# Altium integrated library ALTIUM-WE-PD-rev19a.IntLib: 320 symbols (part 3 of 5)
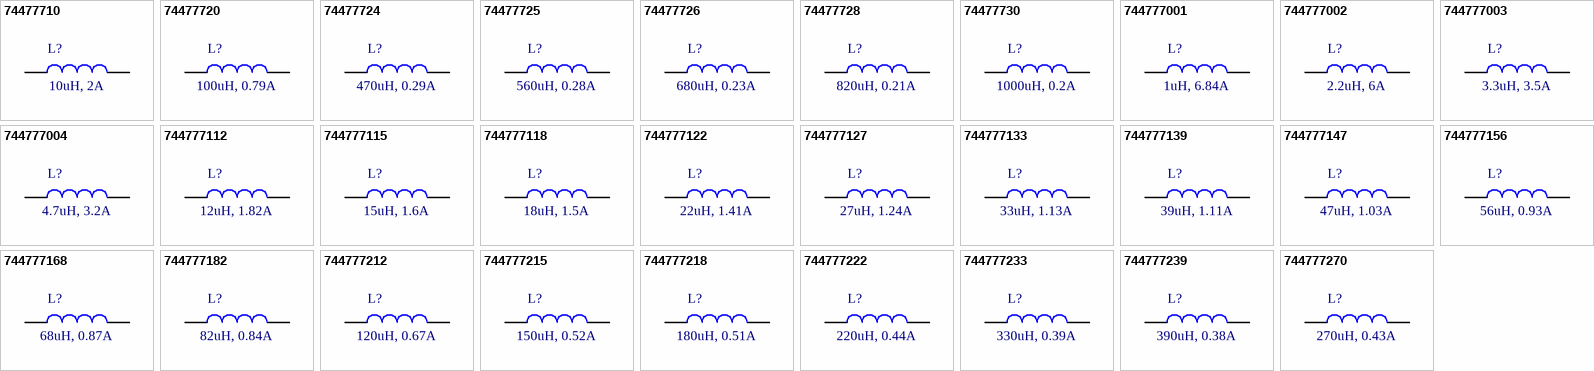
[diagram p16: symbols 74477710 to 744777270]

## 744777001
designator L?, comment 1uH, 6.84A
WE-PD SMT Power Inductor, size 7345, 1uH, 6.84A; Part Number: 744777001; DC Resistance max.: 10mOhm; Self Resonant Frequency: 100MHz; Saturation Current: 10.2A; ComponentLink1Description: Manufacturer; ComponentLink1URL: http://www.we-online.de; ComponentLink2Description: Datasheet; ComponentLink2URL: https://katalog.we-online.com/pbs/datasheet/744777001.pdf; Published Date: April 2019; Publisher: Wurth Elektronik; Rated Current: 6.84A; Size: 7345; Inductance: 1uH; Operating Temperature: -40 to +125degC; Mounting Technology: SMT; Packaging: Tape and Reel
footprint WE-PD_7345
pins: 1, 2

## 744777002
designator L?, comment 2.2uH, 6A
WE-PD SMT Power Inductor, size 7345, 2.2uH, 6A; Part Number: 744777002; DC Resistance max.: 20mOhm; Self Resonant Frequency: 60MHz; Saturation Current: 6.5A; ComponentLink1Description: Manufacturer; ComponentLink1URL: http://www.we-online.de; ComponentLink2Description: Datasheet; ComponentLink2URL: https://katalog.we-online.com/pbs/datasheet/744777002.pdf; Published Date: April 2019; Publisher: Wurth Elektronik; Rated Current: 6A; Size: 7345; Inductance: 2.2uH; Operating Temperature: -40 to +125degC; Mounting Technology: SMT; Packaging: Tape and Reel
footprint WE-PD_7345
pins: 1, 2

## 744777003
designator L?, comment 3.3uH, 3.5A
WE-PD SMT Power Inductor, size 7345, 3.3uH, 3.5A; Part Number: 744777003; DC Resistance max.: 30mOhm; Self Resonant Frequency: 55MHz; Saturation Current: 4.6A; ComponentLink1Description: Manufacturer; ComponentLink1URL: http://www.we-online.de; ComponentLink2Description: Datasheet; ComponentLink2URL: https://katalog.we-online.com/pbs/datasheet/744777003.pdf; Published Date: April 2019; Publisher: Wurth Elektronik; Rated Current: 3.5A; Size: 7345; Inductance: 3.3uH; Operating Temperature: -40 to +125degC; Mounting Technology: SMT; Packaging: Tape and Reel
footprint WE-PD_7345
pins: 1, 2

## 744777004
designator L?, comment 4.7uH, 3.2A
WE-PD SMT Power Inductor, size 7345, 4.7uH, 3.2A; Part Number: 744777004; DC Resistance max.: 40mOhm; Self Resonant Frequency: 37MHz; Saturation Current: 4A; ComponentLink1Description: Manufacturer; ComponentLink1URL: http://www.we-online.de; ComponentLink2Description: Datasheet; ComponentLink2URL: https://katalog.we-online.com/pbs/datasheet/744777004.pdf; Published Date: April 2019; Publisher: Wurth Elektronik; Rated Current: 3.2A; Size: 7345; Inductance: 4.7uH; Operating Temperature: -40 to +125degC; Mounting Technology: SMT; Packaging: Tape and Reel
footprint WE-PD_7345
pins: 1, 2

## 744777112
designator L?, comment 12uH, 1.82A
WE-PD SMT Power Inductor, size 7345, 12uH, 1.82A; Part Number: 744777112; DC Resistance max.: 58mOhm; Self Resonant Frequency: 23MHz; Saturation Current: 2.4A; ComponentLink1Description: Manufacturer; ComponentLink1URL: http://www.we-online.de; ComponentLink2Description: Datasheet; ComponentLink2URL: https://katalog.we-online.com/pbs/datasheet/744777112.pdf; Published Date: April 2019; Publisher: Wurth Elektronik; Rated Current: 1.82A; Size: 7345; Inductance: 12uH; Operating Temperature: -40 to +125degC; Mounting Technology: SMT; Packaging: Tape and Reel
footprint WE-PD_7345
pins: 1, 2

## 744777115
designator L?, comment 15uH, 1.6A
WE-PD SMT Power Inductor, size 7345, 15uH, 1.6A; Part Number: 744777115; DC Resistance max.: 81mOhm; Self Resonant Frequency: 19.5MHz; Saturation Current: 2.2A; ComponentLink1Description: Manufacturer; ComponentLink1URL: http://www.we-online.de; ComponentLink2Description: Datasheet; ComponentLink2URL: https://katalog.we-online.com/pbs/datasheet/744777115.pdf; Published Date: April 2019; Publisher: Wurth Elektronik; Rated Current: 1.6A; Size: 7345; Inductance: 15uH; Operating Temperature: -40 to +125degC; Mounting Technology: SMT; Packaging: Tape and Reel
footprint WE-PD_7345
pins: 1, 2

## 744777118
designator L?, comment 18uH, 1.5A
WE-PD SMT Power Inductor, size 7345, 18uH, 1.5A; Part Number: 744777118; DC Resistance max.: 91mOhm; Self Resonant Frequency: 19MHz; Saturation Current: 2.05A; ComponentLink1Description: Manufacturer; ComponentLink1URL: http://www.we-online.de; ComponentLink2Description: Datasheet; ComponentLink2URL: https://katalog.we-online.com/pbs/datasheet/744777118.pdf; Published Date: April 2019; Publisher: Wurth Elektronik; Rated Current: 1.5A; Size: 7345; Inductance: 18uH; Operating Temperature: -40 to +125degC; Mounting Technology: SMT; Packaging: Tape and Reel
footprint WE-PD_7345
pins: 1, 2

## 744777122
designator L?, comment 22uH, 1.41A
WE-PD SMT Power Inductor, size 7345, 22uH, 1.41A; Part Number: 744777122; DC Resistance max.: 110mOhm; Self Resonant Frequency: 17MHz; Saturation Current: 1.7A; ComponentLink1Description: Manufacturer; ComponentLink1URL: http://www.we-online.de; ComponentLink2Description: Datasheet; ComponentLink2URL: https://katalog.we-online.com/pbs/datasheet/744777122.pdf; Published Date: April 2019; Publisher: Wurth Elektronik; Rated Current: 1.41A; Size: 7345; Inductance: 22uH; Operating Temperature: -40 to +125degC; Mounting Technology: SMT; Packaging: Tape and Reel
footprint WE-PD_7345
pins: 1, 2

## 744777127
designator L?, comment 27uH, 1.24A
WE-PD SMT Power Inductor, size 7345, 27uH, 1.24A; Part Number: 744777127; DC Resistance max.: 150mOhm; Self Resonant Frequency: 15MHz; Saturation Current: 1.55A; ComponentLink1Description: Manufacturer; ComponentLink1URL: http://www.we-online.de; ComponentLink2Description: Datasheet; ComponentLink2URL: https://katalog.we-online.com/pbs/datasheet/744777127.pdf; Published Date: April 2019; Publisher: Wurth Elektronik; Rated Current: 1.24A; Size: 7345; Inductance: 27uH; Operating Temperature: -40 to +125degC; Mounting Technology: SMT; Packaging: Tape and Reel
footprint WE-PD_7345
pins: 1, 2

## 744777133
designator L?, comment 33uH, 1.13A
WE-PD SMT Power Inductor, size 7345, 33uH, 1.13A; Part Number: 744777133; DC Resistance max.: 170mOhm; Self Resonant Frequency: 13MHz; Saturation Current: 1.4A; ComponentLink1Description: Manufacturer; ComponentLink1URL: http://www.we-online.de; ComponentLink2Description: Datasheet; ComponentLink2URL: https://katalog.we-online.com/pbs/datasheet/744777133.pdf; Published Date: April 2019; Publisher: Wurth Elektronik; Rated Current: 1.13A; Size: 7345; Inductance: 33uH; Operating Temperature: -40 to +125degC; Mounting Technology: SMT; Packaging: Tape and Reel
footprint WE-PD_7345
pins: 1, 2

## 744777139
designator L?, comment 39uH, 1.11A
WE-PD SMT Power Inductor, size 7345, 39uH, 1.11A; Part Number: 744777139; DC Resistance max.: 230mOhm; Self Resonant Frequency: 12MHz; Saturation Current: 1.23A; ComponentLink1Description: Manufacturer; ComponentLink1URL: http://www.we-online.de; ComponentLink2Description: Datasheet; ComponentLink2URL: https://katalog.we-online.com/pbs/datasheet/744777139.pdf; Published Date: April 2019; Publisher: Wurth Elektronik; Rated Current: 1.11A; Size: 7345; Inductance: 39uH; Operating Temperature: -40 to +125degC; Mounting Technology: SMT; Packaging: Tape and Reel
footprint WE-PD_7345
pins: 1, 2

## 744777147
designator L?, comment 47uH, 1.03A
WE-PD SMT Power Inductor, size 7345, 47uH, 1.03A; Part Number: 744777147; DC Resistance max.: 260mOhm; Self Resonant Frequency: 10.5MHz; Saturation Current: 1.1A; ComponentLink1Description: Manufacturer; ComponentLink1URL: http://www.we-online.de; ComponentLink2Description: Datasheet; ComponentLink2URL: https://katalog.we-online.com/pbs/datasheet/744777147.pdf; Published Date: April 2019; Publisher: Wurth Elektronik; Rated Current: 1.03A; Size: 7345; Inductance: 47uH; Operating Temperature: -40 to +125degC; Mounting Technology: SMT; Packaging: Tape and Reel
footprint WE-PD_7345
pins: 1, 2

## 744777156
designator L?, comment 56uH, 0.93A
WE-PD SMT Power Inductor, size 7345, 56uH, 0.93A; Part Number: 744777156; DC Resistance max.: 350mOhm; Self Resonant Frequency: 10MHz; Saturation Current: 1.05A; ComponentLink1Description: Manufacturer; ComponentLink1URL: http://www.we-online.de; ComponentLink2Description: Datasheet; ComponentLink2URL: https://katalog.we-online.com/pbs/datasheet/744777156.pdf; Published Date: April 2019; Publisher: Wurth Elektronik; Rated Current: 0.93A; Size: 7345; Inductance: 56uH; Operating Temperature: -40 to +125degC; Mounting Technology: SMT; Packaging: Tape and Reel
footprint WE-PD_7345
pins: 1, 2

## 744777168
designator L?, comment 68uH, 0.87A
WE-PD SMT Power Inductor, size 7345, 68uH, 0.87A; Part Number: 744777168; DC Resistance max.: 380mOhm; Self Resonant Frequency: 9MHz; Saturation Current: 0.95A; ComponentLink1Description: Manufacturer; ComponentLink1URL: http://www.we-online.de; ComponentLink2Description: Datasheet; ComponentLink2URL: https://katalog.we-online.com/pbs/datasheet/744777168.pdf; Published Date: April 2019; Publisher: Wurth Elektronik; Rated Current: 0.87A; Size: 7345; Inductance: 68uH; Operating Temperature: -40 to +125degC; Mounting Technology: SMT; Packaging: Tape and Reel
footprint WE-PD_7345
pins: 1, 2

## 744777182
designator L?, comment 82uH, 0.84A
WE-PD SMT Power Inductor, size 7345, 82uH, 0.84A; Part Number: 744777182; DC Resistance max.: 430mOhm; Self Resonant Frequency: 8MHz; Saturation Current: 0.9A; ComponentLink1Description: Manufacturer; ComponentLink1URL: http://www.we-online.de; ComponentLink2Description: Datasheet; ComponentLink2URL: https://katalog.we-online.com/pbs/datasheet/744777182.pdf; Published Date: April 2019; Publisher: Wurth Elektronik; Rated Current: 0.84A; Size: 7345; Inductance: 82uH; Operating Temperature: -40 to +125degC; Mounting Technology: SMT; Packaging: Tape and Reel
footprint WE-PD_7345
pins: 1, 2

## 744777212
designator L?, comment 120uH, 0.67A
WE-PD SMT Power Inductor, size 7345, 120uH, 0.67A; Part Number: 744777212; DC Resistance max.: 660mOhm; Self Resonant Frequency: 6.7MHz; Saturation Current: 0.7A; ComponentLink1Description: Manufacturer; ComponentLink1URL: http://www.we-online.de; ComponentLink2Description: Datasheet; ComponentLink2URL: https://katalog.we-online.com/pbs/datasheet/744777212.pdf; Published Date: April 2019; Publisher: Wurth Elektronik; Rated Current: 0.67A; Size: 7345; Inductance: 120uH; Operating Temperature: -40 to +125degC; Mounting Technology: SMT; Packaging: Tape and Reel
footprint WE-PD_7345
pins: 1, 2

## 744777215
designator L?, comment 150uH, 0.52A
WE-PD SMT Power Inductor, size 7345, 150uH, 0.52A; Part Number: 744777215; DC Resistance max.: 880mOhm; Self Resonant Frequency: 6MHz; Saturation Current: 0.63A; ComponentLink1Description: Manufacturer; ComponentLink1URL: http://www.we-online.de; ComponentLink2Description: Datasheet; ComponentLink2URL: https://katalog.we-online.com/pbs/datasheet/744777215.pdf; Published Date: April 2019; Publisher: Wurth Elektronik; Rated Current: 0.52A; Size: 7345; Inductance: 150uH; Operating Temperature: -40 to +125degC; Mounting Technology: SMT; Packaging: Tape and Reel
footprint WE-PD_7345
pins: 1, 2

## 744777218
designator L?, comment 180uH, 0.51A
WE-PD SMT Power Inductor, size 7345, 180uH, 0.51A; Part Number: 744777218; DC Resistance max.: 980mOhm; Self Resonant Frequency: 5.3MHz; Saturation Current: 0.56A; ComponentLink1Description: Manufacturer; ComponentLink1URL: http://www.we-online.de; ComponentLink2Description: Datasheet; ComponentLink2URL: https://katalog.we-online.com/pbs/datasheet/744777218.pdf; Published Date: April 2019; Publisher: Wurth Elektronik; Rated Current: 0.51A; Size: 7345; Inductance: 180uH; Operating Temperature: -40 to +125degC; Mounting Technology: SMT; Packaging: Tape and Reel
footprint WE-PD_7345
pins: 1, 2

## 744777222
designator L?, comment 220uH, 0.44A
WE-PD SMT Power Inductor, size 7345, 220uH, 0.44A; Part Number: 744777222; DC Resistance max.: 1170mOhm; Self Resonant Frequency: 4.8MHz; Saturation Current: 0.54A; ComponentLink1Description: Manufacturer; ComponentLink1URL: http://www.we-online.de; ComponentLink2Description: Datasheet; ComponentLink2URL: https://katalog.we-online.com/pbs/datasheet/744777222.pdf; Published Date: April 2019; Publisher: Wurth Elektronik; Rated Current: 0.44A; Size: 7345; Inductance: 220uH; Operating Temperature: -40 to +125degC; Mounting Technology: SMT; Packaging: Tape and Reel
footprint WE-PD_7345
pins: 1, 2

## 744777233
designator L?, comment 330uH, 0.39A
WE-PD SMT Power Inductor, size 7345, 330uH, 0.39A; Part Number: 744777233; DC Resistance max.: 1860mOhm; Self Resonant Frequency: 4.2MHz; Saturation Current: 0.45A; ComponentLink1Description: Manufacturer; ComponentLink1URL: http://www.we-online.de; ComponentLink2Description: Datasheet; ComponentLink2URL: https://katalog.we-online.com/pbs/datasheet/744777233.pdf; Published Date: April 2019; Publisher: Wurth Elektronik; Rated Current: 0.39A; Size: 7345; Inductance: 330uH; Operating Temperature: -40 to +125degC; Mounting Technology: SMT; Packaging: Tape and Reel
footprint WE-PD_7345
pins: 1, 2

## 744777239
designator L?, comment 390uH, 0.38A
WE-PD SMT Power Inductor, size 7345, 390uH, 0.38A; Part Number: 744777239; DC Resistance max.: 2850mOhm; Self Resonant Frequency: 3.8MHz; Saturation Current: 0.42A; ComponentLink1Description: Manufacturer; ComponentLink1URL: http://www.we-online.de; ComponentLink2Description: Datasheet; ComponentLink2URL: https://katalog.we-online.com/pbs/datasheet/744777239.pdf; Published Date: April 2019; Publisher: Wurth Elektronik; Rated Current: 0.38A; Size: 7345; Inductance: 390uH; Operating Temperature: -40 to +125degC; Mounting Technology: SMT; Packaging: Tape and Reel
footprint WE-PD_7345
pins: 1, 2

## 744777270
designator L?, comment 270uH, 0.43A
WE-PD SMT Power Inductor, size 7345, 270uH, 0.43A; Part Number: 744777270; DC Resistance max.: 1640mOhm; Self Resonant Frequency: 4.5MHz; Saturation Current: 0.48A; ComponentLink1Description: Manufacturer; ComponentLink1URL: http://www.we-online.de; ComponentLink2Description: Datasheet; ComponentLink2URL: https://katalog.we-online.com/pbs/datasheet/744777270.pdf; Published Date: April 2019; Publisher: Wurth Elektronik; Rated Current: 0.43A; Size: 7345; Inductance: 270uH; Operating Temperature: -40 to +125degC; Mounting Technology: SMT; Packaging: Tape and Reel
footprint WE-PD_7345
pins: 1, 2


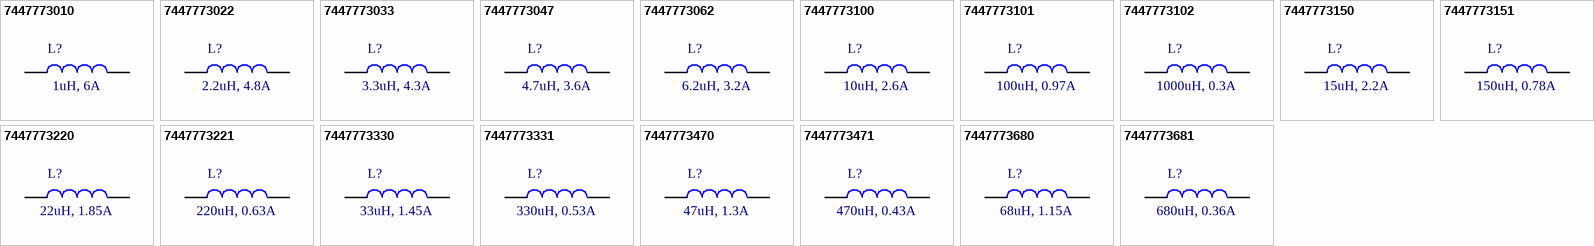
[diagram p8: symbols 7447773010 to 7447773681]

## 7447773010
designator L?, comment 1uH, 6A
WE-PD SMT Power Inductor, size 7345, 1uH, 6A; Part Number: 7447773010; DC Resistance max.: 12mOhm; Self Resonant Frequency: 98MHz; Saturation Current: 10A; ComponentLink1Description: Manufacturer; ComponentLink1URL: http://www.we-online.de; ComponentLink2Description: Datasheet; ComponentLink2URL: https://katalog.we-online.com/pbs/datasheet/7447773010.pdf; Published Date: April 2019; Publisher: Wurth Elektronik; Rated Current: 6A; Size: 7345; Inductance: 1uH; Operating Temperature: -40 to +150degC; Mounting Technology: SMT; Packaging: Tape and Reel
footprint WE-PD_7345_Performance
pins: 1, 2

## 7447773022
designator L?, comment 2.2uH, 4.8A
WE-PD SMT Power Inductor, size 7345, 2.2uH, 4.8A; Part Number: 7447773022; DC Resistance max.: 17.5mOhm; Self Resonant Frequency: 61MHz; Saturation Current: 8A; ComponentLink1Description: Manufacturer; ComponentLink1URL: http://www.we-online.de; ComponentLink2Description: Datasheet; ComponentLink2URL: https://katalog.we-online.com/pbs/datasheet/7447773022.pdf; Published Date: April 2019; Publisher: Wurth Elektronik; Rated Current: 4.8A; Size: 7345; Inductance: 2.2uH; Operating Temperature: -40 to +150degC; Mounting Technology: SMT; Packaging: Tape and Reel
footprint WE-PD_7345_Performance
pins: 1, 2

## 7447773033
designator L?, comment 3.3uH, 4.3A
WE-PD SMT Power Inductor, size 7345, 3.3uH, 4.3A; Part Number: 7447773033; DC Resistance max.: 21mOhm; Self Resonant Frequency: 51MHz; Saturation Current: 6.6A; ComponentLink1Description: Manufacturer; ComponentLink1URL: http://www.we-online.de; ComponentLink2Description: Datasheet; ComponentLink2URL: https://katalog.we-online.com/pbs/datasheet/7447773033.pdf; Published Date: April 2019; Publisher: Wurth Elektronik; Rated Current: 4.3A; Size: 7345; Inductance: 3.3uH; Operating Temperature: -40 to +150degC; Mounting Technology: SMT; Packaging: Tape and Reel
footprint WE-PD_7345_Performance
pins: 1, 2

## 7447773047
designator L?, comment 4.7uH, 3.6A
WE-PD SMT Power Inductor, size 7345, 4.7uH, 3.6A; Part Number: 7447773047; DC Resistance max.: 26mOhm; Self Resonant Frequency: 35.5MHz; Saturation Current: 5.5A; ComponentLink1Description: Manufacturer; ComponentLink1URL: http://www.we-online.de; ComponentLink2Description: Datasheet; ComponentLink2URL: https://katalog.we-online.com/pbs/datasheet/7447773047.pdf; Published Date: April 2019; Publisher: Wurth Elektronik; Rated Current: 3.6A; Size: 7345; Inductance: 4.7uH; Operating Temperature: -40 to +150degC; Mounting Technology: SMT; Packaging: Tape and Reel
footprint WE-PD_7345_Performance
pins: 1, 2

## 7447773062
designator L?, comment 6.2uH, 3.2A
WE-PD SMT Power Inductor, size 7345, 6.2uH, 3.2A; Part Number: 7447773062; DC Resistance max.: 30mOhm; Self Resonant Frequency: 31MHz; Saturation Current: 4.8A; ComponentLink1Description: Manufacturer; ComponentLink1URL: http://www.we-online.de; ComponentLink2Description: Datasheet; ComponentLink2URL: https://katalog.we-online.com/pbs/datasheet/7447773062.pdf; Published Date: April 2019; Publisher: Wurth Elektronik; Rated Current: 3.2A; Size: 7345; Inductance: 6.2uH; Operating Temperature: -40 to +150degC; Mounting Technology: SMT; Packaging: Tape and Reel
footprint WE-PD_7345_Performance
pins: 1, 2

## 7447773100
designator L?, comment 10uH, 2.6A
WE-PD SMT Power Inductor, size 7345, 10uH, 2.6A; Part Number: 7447773100; DC Resistance max.: 45mOhm; Self Resonant Frequency: 23MHz; Saturation Current: 3.8A; ComponentLink1Description: Manufacturer; ComponentLink1URL: http://www.we-online.de; ComponentLink2Description: Datasheet; ComponentLink2URL: https://katalog.we-online.com/pbs/datasheet/7447773100.pdf; Published Date: April 2019; Publisher: Wurth Elektronik; Rated Current: 2.6A; Size: 7345; Inductance: 10uH; Operating Temperature: -40 to +150degC; Mounting Technology: SMT; Packaging: Tape and Reel
footprint WE-PD_7345_Performance
pins: 1, 2

## 7447773101
designator L?, comment 100uH, 0.97A
WE-PD SMT Power Inductor, size 7345, 100uH, 0.97A; Part Number: 7447773101; DC Resistance max.: 335mOhm; Self Resonant Frequency: 6.7MHz; Saturation Current: 1.2A; ComponentLink1Description: Manufacturer; ComponentLink1URL: http://www.we-online.de; ComponentLink2Description: Datasheet; ComponentLink2URL: https://katalog.we-online.com/pbs/datasheet/7447773101.pdf; Published Date: April 2019; Publisher: Wurth Elektronik; Rated Current: 0.97A; Size: 7345; Inductance: 100uH; Operating Temperature: -40 to +150degC; Mounting Technology: SMT; Packaging: Tape and Reel
footprint WE-PD_7345_Performance
pins: 1, 2

## 7447773102
designator L?, comment 1000uH, 0.3A
WE-PD SMT Power Inductor, size 7345, 1000uH, 0.3A; Part Number: 7447773102; DC Resistance max.: 3300mOhm; Self Resonant Frequency: 1.9MHz; Saturation Current: 0.38A; ComponentLink1Description: Manufacturer; ComponentLink1URL: http://www.we-online.de; ComponentLink2Description: Datasheet; ComponentLink2URL: https://katalog.we-online.com/pbs/datasheet/7447773102.pdf; Published Date: April 2019; Publisher: Wurth Elektronik; Rated Current: 0.3A; Size: 7345; Inductance: 1000uH; Operating Temperature: -40 to +150degC; Mounting Technology: SMT; Packaging: Tape and Reel
footprint WE-PD_7345_Performance
pins: 1, 2

## 7447773150
designator L?, comment 15uH, 2.2A
WE-PD SMT Power Inductor, size 7345, 15uH, 2.2A; Part Number: 7447773150; DC Resistance max.: 69.5mOhm; Self Resonant Frequency: 20.7MHz; Saturation Current: 3.1A; ComponentLink1Description: Manufacturer; ComponentLink1URL: http://www.we-online.de; ComponentLink2Description: Datasheet; ComponentLink2URL: https://katalog.we-online.com/pbs/datasheet/7447773150.pdf; Published Date: April 2019; Publisher: Wurth Elektronik; Rated Current: 2.2A; Size: 7345; Inductance: 15uH; Operating Temperature: -40 to +150degC; Mounting Technology: SMT; Packaging: Tape and Reel
footprint WE-PD_7345_Performance
pins: 1, 2

## 7447773151
designator L?, comment 150uH, 0.78A
WE-PD SMT Power Inductor, size 7345, 150uH, 0.78A; Part Number: 7447773151; DC Resistance max.: 515mOhm; Self Resonant Frequency: 5.2MHz; Saturation Current: 0.95A; ComponentLink1Description: Manufacturer; ComponentLink1URL: http://www.we-online.de; ComponentLink2Description: Datasheet; ComponentLink2URL: https://katalog.we-online.com/pbs/datasheet/7447773151.pdf; Published Date: April 2019; Publisher: Wurth Elektronik; Rated Current: 0.78A; Size: 7345; Inductance: 150uH; Operating Temperature: -40 to +150degC; Mounting Technology: SMT; Packaging: Tape and Reel
footprint WE-PD_7345_Performance
pins: 1, 2

## 7447773220
designator L?, comment 22uH, 1.85A
WE-PD SMT Power Inductor, size 7345, 22uH, 1.85A; Part Number: 7447773220; DC Resistance max.: 87mOhm; Self Resonant Frequency: 16.1MHz; Saturation Current: 2.5A; ComponentLink1Description: Manufacturer; ComponentLink1URL: http://www.we-online.de; ComponentLink2Description: Datasheet; ComponentLink2URL: https://katalog.we-online.com/pbs/datasheet/7447773220.pdf; Published Date: April 2019; Publisher: Wurth Elektronik; Rated Current: 1.85A; Size: 7345; Inductance: 22uH; Operating Temperature: -40 to +150degC; Mounting Technology: SMT; Packaging: Tape and Reel
footprint WE-PD_7345_Performance
pins: 1, 2

## 7447773221
designator L?, comment 220uH, 0.63A
WE-PD SMT Power Inductor, size 7345, 220uH, 0.63A; Part Number: 7447773221; DC Resistance max.: 770mOhm; Self Resonant Frequency: 4.3MHz; Saturation Current: 0.81A; ComponentLink1Description: Manufacturer; ComponentLink1URL: http://www.we-online.de; ComponentLink2Description: Datasheet; ComponentLink2URL: https://katalog.we-online.com/pbs/datasheet/7447773221.pdf; Published Date: April 2019; Publisher: Wurth Elektronik; Rated Current: 0.63A; Size: 7345; Inductance: 220uH; Operating Temperature: -40 to +150degC; Mounting Technology: SMT; Packaging: Tape and Reel
footprint WE-PD_7345_Performance
pins: 1, 2

## 7447773330
designator L?, comment 33uH, 1.45A
WE-PD SMT Power Inductor, size 7345, 33uH, 1.45A; Part Number: 7447773330; DC Resistance max.: 147mOhm; Self Resonant Frequency: 13.5MHz; Saturation Current: 2.1A; ComponentLink1Description: Manufacturer; ComponentLink1URL: http://www.we-online.de; ComponentLink2Description: Datasheet; ComponentLink2URL: https://katalog.we-online.com/pbs/datasheet/7447773330.pdf; Published Date: April 2019; Publisher: Wurth Elektronik; Rated Current: 1.45A; Size: 7345; Inductance: 33uH; Operating Temperature: -40 to +150degC; Mounting Technology: SMT; Packaging: Tape and Reel
footprint WE-PD_7345_Performance
pins: 1, 2

## 7447773331
designator L?, comment 330uH, 0.53A
WE-PD SMT Power Inductor, size 7345, 330uH, 0.53A; Part Number: 7447773331; DC Resistance max.: 1085mOhm; Self Resonant Frequency: 3.6MHz; Saturation Current: 0.66A; ComponentLink1Description: Manufacturer; ComponentLink1URL: http://www.we-online.de; ComponentLink2Description: Datasheet; ComponentLink2URL: https://katalog.we-online.com/pbs/datasheet/7447773331.pdf; Published Date: April 2019; Publisher: Wurth Elektronik; Rated Current: 0.53A; Size: 7345; Inductance: 330uH; Operating Temperature: -40 to +150degC; Mounting Technology: SMT; Packaging: Tape and Reel
footprint WE-PD_7345_Performance
pins: 1, 2

## 7447773470
designator L?, comment 47uH, 1.3A
WE-PD SMT Power Inductor, size 7345, 47uH, 1.3A; Part Number: 7447773470; DC Resistance max.: 182mOhm; Self Resonant Frequency: 10.3MHz; Saturation Current: 1.7A; ComponentLink1Description: Manufacturer; ComponentLink1URL: http://www.we-online.de; ComponentLink2Description: Datasheet; ComponentLink2URL: https://katalog.we-online.com/pbs/datasheet/7447773470.pdf; Published Date: April 2019; Publisher: Wurth Elektronik; Rated Current: 1.3A; Size: 7345; Inductance: 47uH; Operating Temperature: -40 to +150degC; Mounting Technology: SMT; Packaging: Tape and Reel
footprint WE-PD_7345_Performance
pins: 1, 2

## 7447773471
designator L?, comment 470uH, 0.43A
WE-PD SMT Power Inductor, size 7345, 470uH, 0.43A; Part Number: 7447773471; DC Resistance max.: 1700mOhm; Self Resonant Frequency: 2.8MHz; Saturation Current: 0.55A; ComponentLink1Description: Manufacturer; ComponentLink1URL: http://www.we-online.de; ComponentLink2Description: Datasheet; ComponentLink2URL: https://katalog.we-online.com/pbs/datasheet/7447773471.pdf; Published Date: April 2019; Publisher: Wurth Elektronik; Rated Current: 0.43A; Size: 7345; Inductance: 470uH; Operating Temperature: -40 to +150degC; Mounting Technology: SMT; Packaging: Tape and Reel
footprint WE-PD_7345_Performance
pins: 1, 2

## 7447773680
designator L?, comment 68uH, 1.15A
WE-PD SMT Power Inductor, size 7345, 68uH, 1.15A; Part Number: 7447773680; DC Resistance max.: 230mOhm; Self Resonant Frequency: 8.4MHz; Saturation Current: 1.45A; ComponentLink1Description: Manufacturer; ComponentLink1URL: http://www.we-online.de; ComponentLink2Description: Datasheet; ComponentLink2URL: https://katalog.we-online.com/pbs/datasheet/7447773680.pdf; Published Date: April 2019; Publisher: Wurth Elektronik; Rated Current: 1.15A; Size: 7345; Inductance: 68uH; Operating Temperature: -40 to +150degC; Mounting Technology: SMT; Packaging: Tape and Reel
footprint WE-PD_7345_Performance
pins: 1, 2

## 7447773681
designator L?, comment 680uH, 0.36A
WE-PD SMT Power Inductor, size 7345, 680uH, 0.36A; Part Number: 7447773681; DC Resistance max.: 2300mOhm; Self Resonant Frequency: 2.3MHz; Saturation Current: 0.46A; ComponentLink1Description: Manufacturer; ComponentLink1URL: http://www.we-online.de; ComponentLink2Description: Datasheet; ComponentLink2URL: https://katalog.we-online.com/pbs/datasheet/7447773681.pdf; Published Date: April 2019; Publisher: Wurth Elektronik; Rated Current: 0.36A; Size: 7345; Inductance: 680uH; Operating Temperature: -40 to +150degC; Mounting Technology: SMT; Packaging: Tape and Reel
footprint WE-PD_7345_Performance
pins: 1, 2


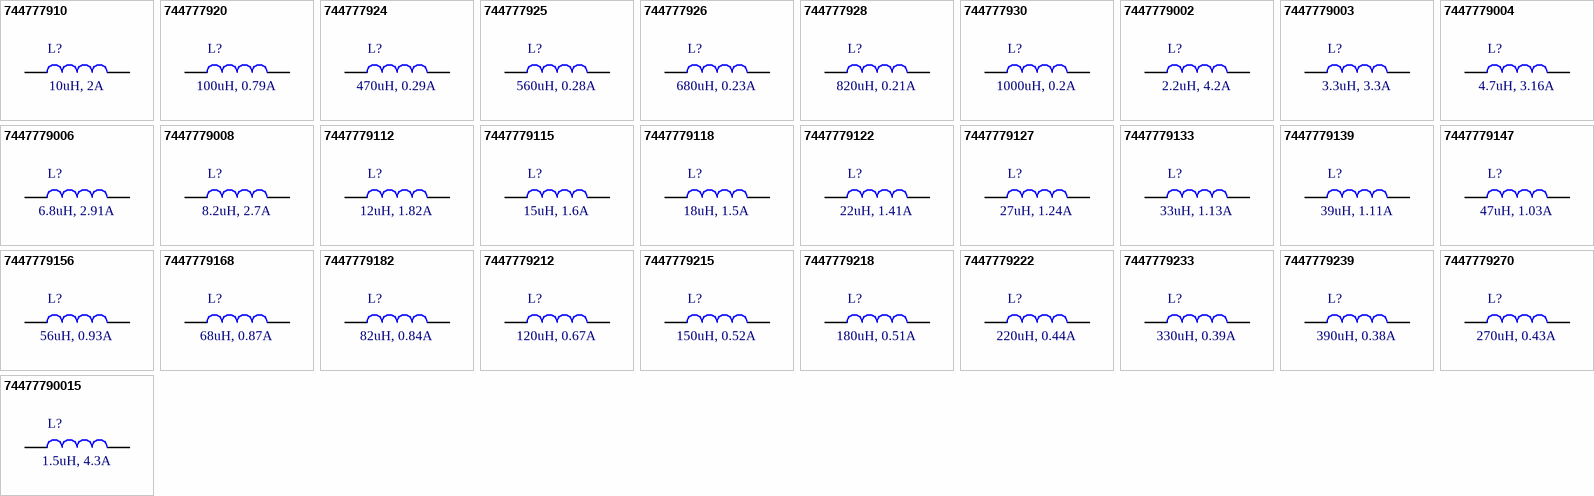
[diagram p9: symbols 744777910 to 74477790015]

## 744777910
designator L?, comment 10uH, 2A
WE-PD SMT Power Inductor, size 7345, 10uH, 2A; Part Number: 744777910; DC Resistance max.: 49mOhm; Self Resonant Frequency: 26MHz; Saturation Current: 2.6A; ComponentLink1Description: Manufacturer; ComponentLink1URL: http://www.we-online.de; ComponentLink2Description: Datasheet; ComponentLink2URL: https://katalog.we-online.com/pbs/datasheet/744777910.pdf; Published Date: April 2019; Publisher: Wurth Elektronik; Rated Current: 2A; Size: 7345; Inductance: 10uH; Operating Temperature: -40 to +125degC; Mounting Technology: SMT; Packaging: Tape and Reel
footprint WE-PD_7345_Robust
pins: 1, 2

## 744777920
designator L?, comment 100uH, 0.79A
WE-PD SMT Power Inductor, size 7345, 100uH, 0.79A; Part Number: 744777920; DC Resistance max.: 380mOhm; Self Resonant Frequency: 7.5MHz; Saturation Current: 0.75A; ComponentLink1Description: Manufacturer; ComponentLink1URL: http://www.we-online.de; ComponentLink2Description: Datasheet; ComponentLink2URL: https://katalog.we-online.com/pbs/datasheet/744777920.pdf; Published Date: April 2019; Publisher: Wurth Elektronik; Rated Current: 0.79A; Size: 7345; Inductance: 100uH; Operating Temperature: -40 to +125degC; Mounting Technology: SMT; Packaging: Tape and Reel
footprint WE-PD_7345_Robust
pins: 1, 2

## 744777924
designator L?, comment 470uH, 0.29A
WE-PD SMT Power Inductor, size 7345, 470uH, 0.29A; Part Number: 744777924; DC Resistance max.: 3010mOhm; Self Resonant Frequency: 3.2MHz; Saturation Current: 0.34A; ComponentLink1Description: Manufacturer; ComponentLink1URL: http://www.we-online.de; ComponentLink2Description: Datasheet; ComponentLink2URL: https://katalog.we-online.com/pbs/datasheet/744777924.pdf; Published Date: April 2019; Publisher: Wurth Elektronik; Rated Current: 0.29A; Size: 7345; Inductance: 470uH; Operating Temperature: -40 to +125degC; Mounting Technology: SMT; Packaging: Tape and Reel
footprint WE-PD_7345_Robust
pins: 1, 2

## 744777925
designator L?, comment 560uH, 0.28A
WE-PD SMT Power Inductor, size 7345, 560uH, 0.28A; Part Number: 744777925; DC Resistance max.: 3620mOhm; Self Resonant Frequency: 3MHz; Saturation Current: 0.31A; ComponentLink1Description: Manufacturer; ComponentLink1URL: http://www.we-online.de; ComponentLink2Description: Datasheet; ComponentLink2URL: https://katalog.we-online.com/pbs/datasheet/744777925.pdf; Published Date: April 2019; Publisher: Wurth Elektronik; Rated Current: 0.28A; Size: 7345; Inductance: 560uH; Operating Temperature: -40 to +125degC; Mounting Technology: SMT; Packaging: Tape and Reel
footprint WE-PD_7345_Robust
pins: 1, 2

## 744777926
designator L?, comment 680uH, 0.23A
WE-PD SMT Power Inductor, size 7345, 680uH, 0.23A; Part Number: 744777926; DC Resistance max.: 4630mOhm; Self Resonant Frequency: 2.7MHz; Saturation Current: 0.28A; ComponentLink1Description: Manufacturer; ComponentLink1URL: http://www.we-online.de; ComponentLink2Description: Datasheet; ComponentLink2URL: https://katalog.we-online.com/pbs/datasheet/744777926.pdf; Published Date: April 2019; Publisher: Wurth Elektronik; Rated Current: 0.23A; Size: 7345; Inductance: 680uH; Operating Temperature: -40 to +125degC; Mounting Technology: SMT; Packaging: Tape and Reel
footprint WE-PD_7345_Robust
pins: 1, 2

## 744777928
designator L?, comment 820uH, 0.21A
WE-PD SMT Power Inductor, size 7345, 820uH, 0.21A; Part Number: 744777928; DC Resistance max.: 5200mOhm; Self Resonant Frequency: 2.5MHz; Saturation Current: 0.26A; ComponentLink1Description: Manufacturer; ComponentLink1URL: http://www.we-online.de; ComponentLink2Description: Datasheet; ComponentLink2URL: https://katalog.we-online.com/pbs/datasheet/744777928.pdf; Published Date: April 2019; Publisher: Wurth Elektronik; Rated Current: 0.21A; Size: 7345; Inductance: 820uH; Operating Temperature: -40 to +125degC; Mounting Technology: SMT; Packaging: Tape and Reel
footprint WE-PD_7345_Robust
pins: 1, 2

## 744777930
designator L?, comment 1000uH, 0.2A
WE-PD SMT Power Inductor, size 7345, 1000uH, 0.2A; Part Number: 744777930; DC Resistance max.: 6000mOhm; Self Resonant Frequency: 2.2MHz; Saturation Current: 0.25A; ComponentLink1Description: Manufacturer; ComponentLink1URL: http://www.we-online.de; ComponentLink2Description: Datasheet; ComponentLink2URL: https://katalog.we-online.com/pbs/datasheet/744777930.pdf; Published Date: April 2019; Publisher: Wurth Elektronik; Rated Current: 0.2A; Size: 7345; Inductance: 1000uH; Operating Temperature: -40 to +125degC; Mounting Technology: SMT; Packaging: Tape and Reel
footprint WE-PD_7345_Robust
pins: 1, 2

## 7447779002
designator L?, comment 2.2uH, 4.2A
WE-PD SMT Power Inductor, size 7345, 2.2uH, 4.2A; Part Number: 7447779002; DC Resistance max.: 20mOhm; Self Resonant Frequency: 60MHz; Saturation Current: 6A; ComponentLink1Description: Manufacturer; ComponentLink1URL: http://www.we-online.de; ComponentLink2Description: Datasheet; ComponentLink2URL: https://katalog.we-online.com/pbs/datasheet/7447779002.pdf; Published Date: April 2019; Publisher: Wurth Elektronik; Rated Current: 4.2A; Size: 7345; Inductance: 2.2uH; Operating Temperature: -40 to +125degC; Mounting Technology: SMT; Packaging: Tape and Reel
footprint WE-PD_7345_Robust
pins: 1, 2

## 7447779003
designator L?, comment 3.3uH, 3.3A
WE-PD SMT Power Inductor, size 7345, 3.3uH, 3.3A; Part Number: 7447779003; DC Resistance max.: 30mOhm; Self Resonant Frequency: 55MHz; Saturation Current: 4.5A; ComponentLink1Description: Manufacturer; ComponentLink1URL: http://www.we-online.de; ComponentLink2Description: Datasheet; ComponentLink2URL: https://katalog.we-online.com/pbs/datasheet/7447779003.pdf; Published Date: April 2019; Publisher: Wurth Elektronik; Rated Current: 3.3A; Size: 7345; Inductance: 3.3uH; Operating Temperature: -40 to +125degC; Mounting Technology: SMT; Packaging: Tape and Reel
footprint WE-PD_7345_Robust
pins: 1, 2

## 7447779004
designator L?, comment 4.7uH, 3.16A
WE-PD SMT Power Inductor, size 7345, 4.7uH, 3.16A; Part Number: 7447779004; DC Resistance max.: 32mOhm; Self Resonant Frequency: 37MHz; Saturation Current: 4.4A; ComponentLink1Description: Manufacturer; ComponentLink1URL: http://www.we-online.de; ComponentLink2Description: Datasheet; ComponentLink2URL: https://katalog.we-online.com/pbs/datasheet/7447779004.pdf; Published Date: April 2019; Publisher: Wurth Elektronik; Rated Current: 3.16A; Size: 7345; Inductance: 4.7uH; Operating Temperature: -40 to +125degC; Mounting Technology: SMT; Packaging: Tape and Reel
footprint WE-PD_7345_Robust
pins: 1, 2

## 7447779006
designator L?, comment 6.8uH, 2.91A
WE-PD SMT Power Inductor, size 7345, 6.8uH, 2.91A; Part Number: 7447779006; DC Resistance max.: 35mOhm; Self Resonant Frequency: 32MHz; Saturation Current: 3.3A; ComponentLink1Description: Manufacturer; ComponentLink1URL: http://www.we-online.de; ComponentLink2Description: Datasheet; ComponentLink2URL: https://katalog.we-online.com/pbs/datasheet/7447779006.pdf; Published Date: April 2019; Publisher: Wurth Elektronik; Rated Current: 2.91A; Size: 7345; Inductance: 6.8uH; Operating Temperature: -40 to +125degC; Mounting Technology: SMT; Packaging: Tape and Reel
footprint WE-PD_7345_Robust
pins: 1, 2

## 7447779008
designator L?, comment 8.2uH, 2.7A
WE-PD SMT Power Inductor, size 7345, 8.2uH, 2.7A; Part Number: 7447779008; DC Resistance max.: 53mOhm; Self Resonant Frequency: 28MHz; Saturation Current: 3A; ComponentLink1Description: Manufacturer; ComponentLink1URL: http://www.we-online.de; ComponentLink2Description: Datasheet; ComponentLink2URL: https://katalog.we-online.com/pbs/datasheet/7447779008.pdf; Published Date: April 2019; Publisher: Wurth Elektronik; Rated Current: 2.7A; Size: 7345; Inductance: 8.2uH; Operating Temperature: -40 to +125degC; Mounting Technology: SMT; Packaging: Tape and Reel
footprint WE-PD_7345_Robust
pins: 1, 2

## 7447779112
designator L?, comment 12uH, 1.82A
WE-PD SMT Power Inductor, size 7345, 12uH, 1.82A; Part Number: 7447779112; DC Resistance max.: 58mOhm; Self Resonant Frequency: 23MHz; Saturation Current: 2.4A; ComponentLink1Description: Manufacturer; ComponentLink1URL: http://www.we-online.de; ComponentLink2Description: Datasheet; ComponentLink2URL: https://katalog.we-online.com/pbs/datasheet/7447779112.pdf; Published Date: April 2019; Publisher: Wurth Elektronik; Rated Current: 1.82A; Size: 7345; Inductance: 12uH; Operating Temperature: -40 to +125degC; Mounting Technology: SMT; Packaging: Tape and Reel
footprint WE-PD_7345_Robust
pins: 1, 2

## 7447779115
designator L?, comment 15uH, 1.6A
WE-PD SMT Power Inductor, size 7345, 15uH, 1.6A; Part Number: 7447779115; DC Resistance max.: 81mOhm; Self Resonant Frequency: 19.5MHz; Saturation Current: 2.2A; ComponentLink1Description: Manufacturer; ComponentLink1URL: http://www.we-online.de; ComponentLink2Description: Datasheet; ComponentLink2URL: https://katalog.we-online.com/pbs/datasheet/7447779115.pdf; Published Date: April 2019; Publisher: Wurth Elektronik; Rated Current: 1.6A; Size: 7345; Inductance: 15uH; Operating Temperature: -40 to +125degC; Mounting Technology: SMT; Packaging: Tape and Reel
footprint WE-PD_7345_Robust
pins: 1, 2

## 7447779118
designator L?, comment 18uH, 1.5A
WE-PD SMT Power Inductor, size 7345, 18uH, 1.5A; Part Number: 7447779118; DC Resistance max.: 91mOhm; Self Resonant Frequency: 19MHz; Saturation Current: 2.05A; ComponentLink1Description: Manufacturer; ComponentLink1URL: http://www.we-online.de; ComponentLink2Description: Datasheet; ComponentLink2URL: https://katalog.we-online.com/pbs/datasheet/7447779118.pdf; Published Date: April 2019; Publisher: Wurth Elektronik; Rated Current: 1.5A; Size: 7345; Inductance: 18uH; Operating Temperature: -40 to +125degC; Mounting Technology: SMT; Packaging: Tape and Reel
footprint WE-PD_7345_Robust
pins: 1, 2

## 7447779122
designator L?, comment 22uH, 1.41A
WE-PD SMT Power Inductor, size 7345, 22uH, 1.41A; Part Number: 7447779122; DC Resistance max.: 110mOhm; Self Resonant Frequency: 17MHz; Saturation Current: 1.7A; ComponentLink1Description: Manufacturer; ComponentLink1URL: http://www.we-online.de; ComponentLink2Description: Datasheet; ComponentLink2URL: https://katalog.we-online.com/pbs/datasheet/7447779122.pdf; Published Date: April 2019; Publisher: Wurth Elektronik; Rated Current: 1.41A; Size: 7345; Inductance: 22uH; Operating Temperature: -40 to +125degC; Mounting Technology: SMT; Packaging: Tape and Reel
footprint WE-PD_7345_Robust
pins: 1, 2

## 7447779127
designator L?, comment 27uH, 1.24A
WE-PD SMT Power Inductor, size 7345, 27uH, 1.24A; Part Number: 7447779127; DC Resistance max.: 150mOhm; Self Resonant Frequency: 15MHz; Saturation Current: 1.55A; ComponentLink1Description: Manufacturer; ComponentLink1URL: http://www.we-online.de; ComponentLink2Description: Datasheet; ComponentLink2URL: https://katalog.we-online.com/pbs/datasheet/7447779127.pdf; Published Date: April 2019; Publisher: Wurth Elektronik; Rated Current: 1.24A; Size: 7345; Inductance: 27uH; Operating Temperature: -40 to +125degC; Mounting Technology: SMT; Packaging: Tape and Reel
footprint WE-PD_7345_Robust
pins: 1, 2

## 7447779133
designator L?, comment 33uH, 1.13A
WE-PD SMT Power Inductor, size 7345, 33uH, 1.13A; Part Number: 7447779133; DC Resistance max.: 170mOhm; Self Resonant Frequency: 13MHz; Saturation Current: 1.4A; ComponentLink1Description: Manufacturer; ComponentLink1URL: http://www.we-online.de; ComponentLink2Description: Datasheet; ComponentLink2URL: https://katalog.we-online.com/pbs/datasheet/7447779133.pdf; Published Date: April 2019; Publisher: Wurth Elektronik; Rated Current: 1.13A; Size: 7345; Inductance: 33uH; Operating Temperature: -40 to +125degC; Mounting Technology: SMT; Packaging: Tape and Reel
footprint WE-PD_7345_Robust
pins: 1, 2

## 7447779139
designator L?, comment 39uH, 1.11A
WE-PD SMT Power Inductor, size 7345, 39uH, 1.11A; Part Number: 7447779139; DC Resistance max.: 230mOhm; Self Resonant Frequency: 12MHz; Saturation Current: 1.23A; ComponentLink1Description: Manufacturer; ComponentLink1URL: http://www.we-online.de; ComponentLink2Description: Datasheet; ComponentLink2URL: https://katalog.we-online.com/pbs/datasheet/7447779139.pdf; Published Date: April 2019; Publisher: Wurth Elektronik; Rated Current: 1.11A; Size: 7345; Inductance: 39uH; Operating Temperature: -40 to +125degC; Mounting Technology: SMT; Packaging: Tape and Reel
footprint WE-PD_7345_Robust
pins: 1, 2

## 7447779147
designator L?, comment 47uH, 1.03A
WE-PD SMT Power Inductor, size 7345, 47uH, 1.03A; Part Number: 7447779147; DC Resistance max.: 260mOhm; Self Resonant Frequency: 10.5MHz; Saturation Current: 1.1A; ComponentLink1Description: Manufacturer; ComponentLink1URL: http://www.we-online.de; ComponentLink2Description: Datasheet; ComponentLink2URL: https://katalog.we-online.com/pbs/datasheet/7447779147.pdf; Published Date: April 2019; Publisher: Wurth Elektronik; Rated Current: 1.03A; Size: 7345; Inductance: 47uH; Operating Temperature: -40 to +125degC; Mounting Technology: SMT; Packaging: Tape and Reel
footprint WE-PD_7345_Robust
pins: 1, 2

## 7447779156
designator L?, comment 56uH, 0.93A
WE-PD SMT Power Inductor, size 7345, 56uH, 0.93A; Part Number: 7447779156; DC Resistance max.: 350mOhm; Self Resonant Frequency: 10MHz; Saturation Current: 1.05A; ComponentLink1Description: Manufacturer; ComponentLink1URL: http://www.we-online.de; ComponentLink2Description: Datasheet; ComponentLink2URL: https://katalog.we-online.com/pbs/datasheet/7447779156.pdf; Published Date: April 2019; Publisher: Wurth Elektronik; Rated Current: 0.93A; Size: 7345; Inductance: 56uH; Operating Temperature: -40 to +125degC; Mounting Technology: SMT; Packaging: Tape and Reel
footprint WE-PD_7345_Robust
pins: 1, 2

## 7447779168
designator L?, comment 68uH, 0.87A
WE-PD SMT Power Inductor, size 7345, 68uH, 0.87A; Part Number: 7447779168; DC Resistance max.: 380mOhm; Self Resonant Frequency: 9MHz; Saturation Current: 0.95A; ComponentLink1Description: Manufacturer; ComponentLink1URL: http://www.we-online.de; ComponentLink2Description: Datasheet; ComponentLink2URL: https://katalog.we-online.com/pbs/datasheet/7447779168.pdf; Published Date: April 2019; Publisher: Wurth Elektronik; Rated Current: 0.87A; Size: 7345; Inductance: 68uH; Operating Temperature: -40 to +125degC; Mounting Technology: SMT; Packaging: Tape and Reel
footprint WE-PD_7345_Robust
pins: 1, 2

## 7447779182
designator L?, comment 82uH, 0.84A
WE-PD SMT Power Inductor, size 7345, 82uH, 0.84A; Part Number: 7447779182; DC Resistance max.: 430mOhm; Self Resonant Frequency: 8MHz; Saturation Current: 0.9A; ComponentLink1Description: Manufacturer; ComponentLink1URL: http://www.we-online.de; ComponentLink2Description: Datasheet; ComponentLink2URL: https://katalog.we-online.com/pbs/datasheet/7447779182.pdf; Published Date: April 2019; Publisher: Wurth Elektronik; Rated Current: 0.84A; Size: 7345; Inductance: 82uH; Operating Temperature: -40 to +125degC; Mounting Technology: SMT; Packaging: Tape and Reel
footprint WE-PD_7345_Robust
pins: 1, 2

## 7447779212
designator L?, comment 120uH, 0.67A
WE-PD SMT Power Inductor, size 7345, 120uH, 0.67A; Part Number: 7447779212; DC Resistance max.: 660mOhm; Self Resonant Frequency: 6.7MHz; Saturation Current: 0.7A; ComponentLink1Description: Manufacturer; ComponentLink1URL: http://www.we-online.de; ComponentLink2Description: Datasheet; ComponentLink2URL: https://katalog.we-online.com/pbs/datasheet/7447779212.pdf; Published Date: April 2019; Publisher: Wurth Elektronik; Rated Current: 0.67A; Size: 7345; Inductance: 120uH; Operating Temperature: -40 to +125degC; Mounting Technology: SMT; Packaging: Tape and Reel
footprint WE-PD_7345_Robust
pins: 1, 2

## 7447779215
designator L?, comment 150uH, 0.52A
WE-PD SMT Power Inductor, size 7345, 150uH, 0.52A; Part Number: 7447779215; DC Resistance max.: 880mOhm; Self Resonant Frequency: 6MHz; Saturation Current: 0.63A; ComponentLink1Description: Manufacturer; ComponentLink1URL: http://www.we-online.de; ComponentLink2Description: Datasheet; ComponentLink2URL: https://katalog.we-online.com/pbs/datasheet/7447779215.pdf; Published Date: April 2019; Publisher: Wurth Elektronik; Rated Current: 0.52A; Size: 7345; Inductance: 150uH; Operating Temperature: -40 to +125degC; Mounting Technology: SMT; Packaging: Tape and Reel
footprint WE-PD_7345_Robust
pins: 1, 2

## 7447779218
designator L?, comment 180uH, 0.51A
WE-PD SMT Power Inductor, size 7345, 180uH, 0.51A; Part Number: 7447779218; DC Resistance max.: 980mOhm; Self Resonant Frequency: 5.3MHz; Saturation Current: 0.56A; ComponentLink1Description: Manufacturer; ComponentLink1URL: http://www.we-online.de; ComponentLink2Description: Datasheet; ComponentLink2URL: https://katalog.we-online.com/pbs/datasheet/7447779218.pdf; Published Date: April 2019; Publisher: Wurth Elektronik; Rated Current: 0.51A; Size: 7345; Inductance: 180uH; Operating Temperature: -40 to +125degC; Mounting Technology: SMT; Packaging: Tape and Reel
footprint WE-PD_7345_Robust
pins: 1, 2

## 7447779222
designator L?, comment 220uH, 0.44A
WE-PD SMT Power Inductor, size 7345, 220uH, 0.44A; Part Number: 7447779222; DC Resistance max.: 1170mOhm; Self Resonant Frequency: 5MHz; Saturation Current: 0.54A; ComponentLink1Description: Manufacturer; ComponentLink1URL: http://www.we-online.de; ComponentLink2Description: Datasheet; ComponentLink2URL: https://katalog.we-online.com/pbs/datasheet/7447779222.pdf; Published Date: April 2019; Publisher: Wurth Elektronik; Rated Current: 0.44A; Size: 7345; Inductance: 220uH; Operating Temperature: -40 to +125degC; Mounting Technology: SMT; Packaging: Tape and Reel
footprint WE-PD_7345_Robust
pins: 1, 2

## 7447779233
designator L?, comment 330uH, 0.39A
WE-PD SMT Power Inductor, size 7345, 330uH, 0.39A; Part Number: 7447779233; DC Resistance max.: 1860mOhm; Self Resonant Frequency: 4MHz; Saturation Current: 0.45A; ComponentLink1Description: Manufacturer; ComponentLink1URL: http://www.we-online.de; ComponentLink2Description: Datasheet; ComponentLink2URL: https://katalog.we-online.com/pbs/datasheet/7447779233.pdf; Published Date: April 2019; Publisher: Wurth Elektronik; Rated Current: 0.39A; Size: 7345; Inductance: 330uH; Operating Temperature: -40 to +125degC; Mounting Technology: SMT; Packaging: Tape and Reel
footprint WE-PD_7345_Robust
pins: 1, 2

## 7447779239
designator L?, comment 390uH, 0.38A
WE-PD SMT Power Inductor, size 7345, 390uH, 0.38A; Part Number: 7447779239; DC Resistance max.: 2850mOhm; Self Resonant Frequency: 3.8MHz; Saturation Current: 0.42A; ComponentLink1Description: Manufacturer; ComponentLink1URL: http://www.we-online.de; ComponentLink2Description: Datasheet; ComponentLink2URL: https://katalog.we-online.com/pbs/datasheet/7447779239.pdf; Published Date: April 2019; Publisher: Wurth Elektronik; Rated Current: 0.38A; Size: 7345; Inductance: 390uH; Operating Temperature: -40 to +125degC; Mounting Technology: SMT; Packaging: Tape and Reel
footprint WE-PD_7345_Robust
pins: 1, 2

## 7447779270
designator L?, comment 270uH, 0.43A
WE-PD SMT Power Inductor, size 7345, 270uH, 0.43A; Part Number: 7447779270; DC Resistance max.: 1640mOhm; Self Resonant Frequency: 4.3MHz; Saturation Current: 0.48A; ComponentLink1Description: Manufacturer; ComponentLink1URL: http://www.we-online.de; ComponentLink2Description: Datasheet; ComponentLink2URL: https://katalog.we-online.com/pbs/datasheet/7447779270.pdf; Published Date: April 2019; Publisher: Wurth Elektronik; Rated Current: 0.43A; Size: 7345; Inductance: 270uH; Operating Temperature: -40 to +125degC; Mounting Technology: SMT; Packaging: Tape and Reel
footprint WE-PD_7345_Robust
pins: 1, 2

## 74477790015
designator L?, comment 1.5uH, 4.3A
WE-PD SMT Power Inductor, size 7345, 1.5uH, 4.3A; Part Number: 74477790015; DC Resistance max.: 18mOhm; Self Resonant Frequency: 75MHz; Saturation Current: 7.3A; ComponentLink1Description: Manufacturer; ComponentLink1URL: http://www.we-online.de; ComponentLink2Description: Datasheet; ComponentLink2URL: https://katalog.we-online.com/pbs/datasheet/74477790015.pdf; Published Date: April 2019; Publisher: Wurth Elektronik; Rated Current: 4.3A; Size: 7345; Inductance: 1.5uH; Operating Temperature: -40 to +125degC; Mounting Technology: SMT; Packaging: Tape and Reel
footprint WE-PD_7345_Robust
pins: 1, 2


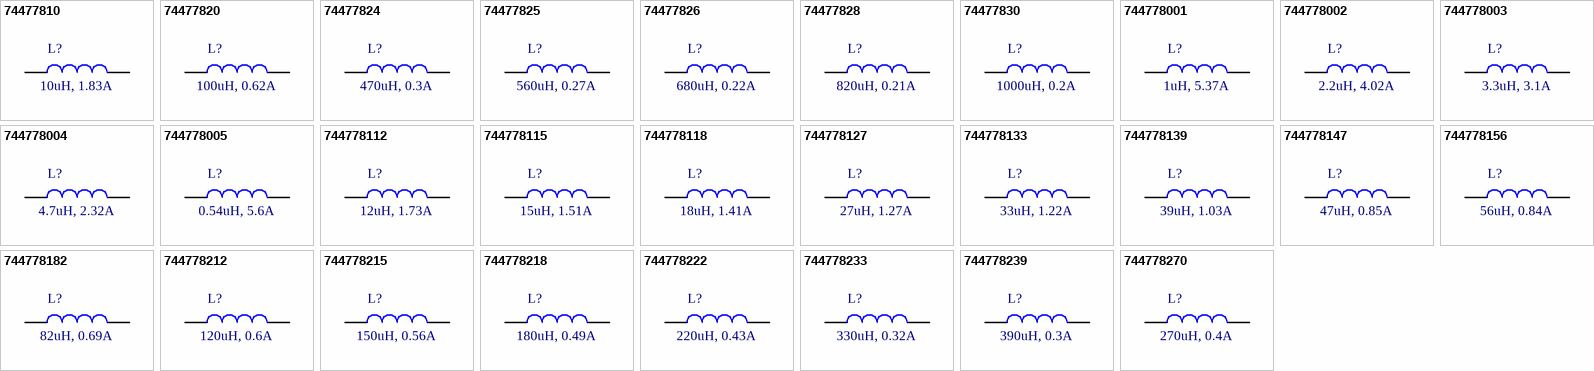
[diagram p10: symbols 74477810 to 744778270]

## 74477810
designator L?, comment 10uH, 1.83A
WE-PD SMT Power Inductor, size 7332, 10uH, 1.83A; Part Number: 74477810; DC Resistance max.: 72mOhm; Self Resonant Frequency: 32MHz; Saturation Current: 2.2A; ComponentLink1Description: Manufacturer; ComponentLink1URL: http://www.we-online.de; ComponentLink2Description: Datasheet; ComponentLink2URL: https://katalog.we-online.com/pbs/datasheet/74477810.pdf; Published Date: April 2019; Publisher: Wurth Elektronik; Rated Current: 1.83A; Size: 7332; Inductance: 10uH; Operating Temperature: -40 to +125degC; Mounting Technology: SMT; Packaging: Tape and Reel
footprint WE-PD_7332
pins: 1, 2

## 74477820
designator L?, comment 100uH, 0.62A
WE-PD SMT Power Inductor, size 7332, 100uH, 0.62A; Part Number: 74477820; DC Resistance max.: 790mOhm; Self Resonant Frequency: 9MHz; Saturation Current: 0.76A; ComponentLink1Description: Manufacturer; ComponentLink1URL: http://www.we-online.de; ComponentLink2Description: Datasheet; ComponentLink2URL: https://katalog.we-online.com/pbs/datasheet/74477820.pdf; Published Date: April 2019; Publisher: Wurth Elektronik; Rated Current: 0.62A; Size: 7332; Inductance: 100uH; Operating Temperature: -40 to +125degC; Mounting Technology: SMT; Packaging: Tape and Reel
footprint WE-PD_7332
pins: 1, 2

## 74477824
designator L?, comment 470uH, 0.3A
WE-PD SMT Power Inductor, size 7332, 470uH, 0.3A; Part Number: 74477824; DC Resistance max.: 4180mOhm; Self Resonant Frequency: 4MHz; Saturation Current: 0.31A; ComponentLink1Description: Manufacturer; ComponentLink1URL: http://www.we-online.de; ComponentLink2Description: Datasheet; ComponentLink2URL: https://katalog.we-online.com/pbs/datasheet/74477824.pdf; Published Date: April 2019; Publisher: Wurth Elektronik; Rated Current: 0.3A; Size: 7332; Inductance: 470uH; Operating Temperature: -40 to +125degC; Mounting Technology: SMT; Packaging: Tape and Reel
footprint WE-PD_7332
pins: 1, 2

## 74477825
designator L?, comment 560uH, 0.27A
WE-PD SMT Power Inductor, size 7332, 560uH, 0.27A; Part Number: 74477825; DC Resistance max.: 4670mOhm; Self Resonant Frequency: 3.7MHz; Saturation Current: 0.3A; ComponentLink1Description: Manufacturer; ComponentLink1URL: http://www.we-online.de; ComponentLink2Description: Datasheet; ComponentLink2URL: https://katalog.we-online.com/pbs/datasheet/74477825.pdf; Published Date: April 2019; Publisher: Wurth Elektronik; Rated Current: 0.27A; Size: 7332; Inductance: 560uH; Operating Temperature: -40 to +125degC; Mounting Technology: SMT; Packaging: Tape and Reel
footprint WE-PD_7332
pins: 1, 2

## 74477826
designator L?, comment 680uH, 0.22A
WE-PD SMT Power Inductor, size 7332, 680uH, 0.22A; Part Number: 74477826; DC Resistance max.: 5730mOhm; Self Resonant Frequency: 3.4MHz; ComponentLink1Description: Manufacturer; ComponentLink1URL: http://www.we-online.de; ComponentLink2Description: Datasheet; ComponentLink2URL: https://katalog.we-online.com/pbs/datasheet/74477826.pdf; Published Date: April 2019; Publisher: Wurth Elektronik; Rated Current: 0.22A; Size: 7332; Inductance: 680uH; Operating Temperature: -40 to +125degC; Mounting Technology: SMT; Packaging: Tape and Reel; Saturation Current: 0.22A
footprint WE-PD_7332
pins: 1, 2